# Altium footprint library 1825910-6_BUTTON.PcbLib: 1 footprints
Each footprint in its own frame and in the unit in brackets; x right, y up, seen from the top. Pads: shape width x height; smd on the part's side, far side on the other; paste and mask are expansions set on the pad; w line width, h text height; cw(c..) or ccw(c..) is an arc to the next point about the centre after c.
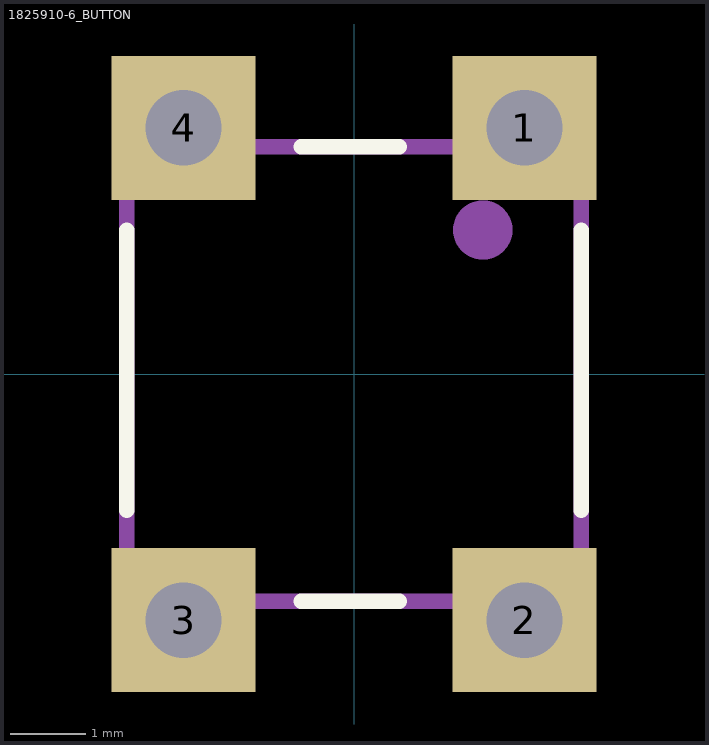
[diagram p0: the footprint, top view; thin cyan lines are the x and y axes]

## 1825910-6_BUTTON [mm]
pads (4):
  rect 1.9x1.9 hole 1: 1(2.25,3.25) 2(2.25,-3.25) 3(-2.25,-3.25) 4(-2.25,3.25)
Top Overlay:
  lines w0.2: -3,-1.8 -3,1.9 -3,0 ; -0.7,-3 0.6,-3 ; -0.7,3 0.6,3 ; 3,-1.8 3,1.9
Mechanical 2:
  circle w0.5: c1.7,1.9 r0.141
  lines w0.2: -3,-3 -3,3 3,3 3,-3 -3,-3
3D body "FSM4JLH(1825910-5).step": height 5, standoff -3.51, extent -2.995,-3.998 2.995,3.8
3D body: height 3.63, standoff -3.63, extent -0.3,0.6 -0.3,0.6
3D body: height 5.11, standoff 3.61, extent -1.9,-2.097 1.9,1.697
3D body: height 3.63, standoff -3.63, extent -0.2,-0.3 -0.2,-0.3